# Altium footprint library VK_Lib.PcbLib: 16 footprints
Each footprint in its own frame and in the unit in brackets; x right, y up, seen from the top. Pads: shape width x height; smd on the part's side, far side on the other; paste and mask are expansions set on the pad; w line width, h text height; cw(c..) or ccw(c..) is an arc to the next point about the centre after c.
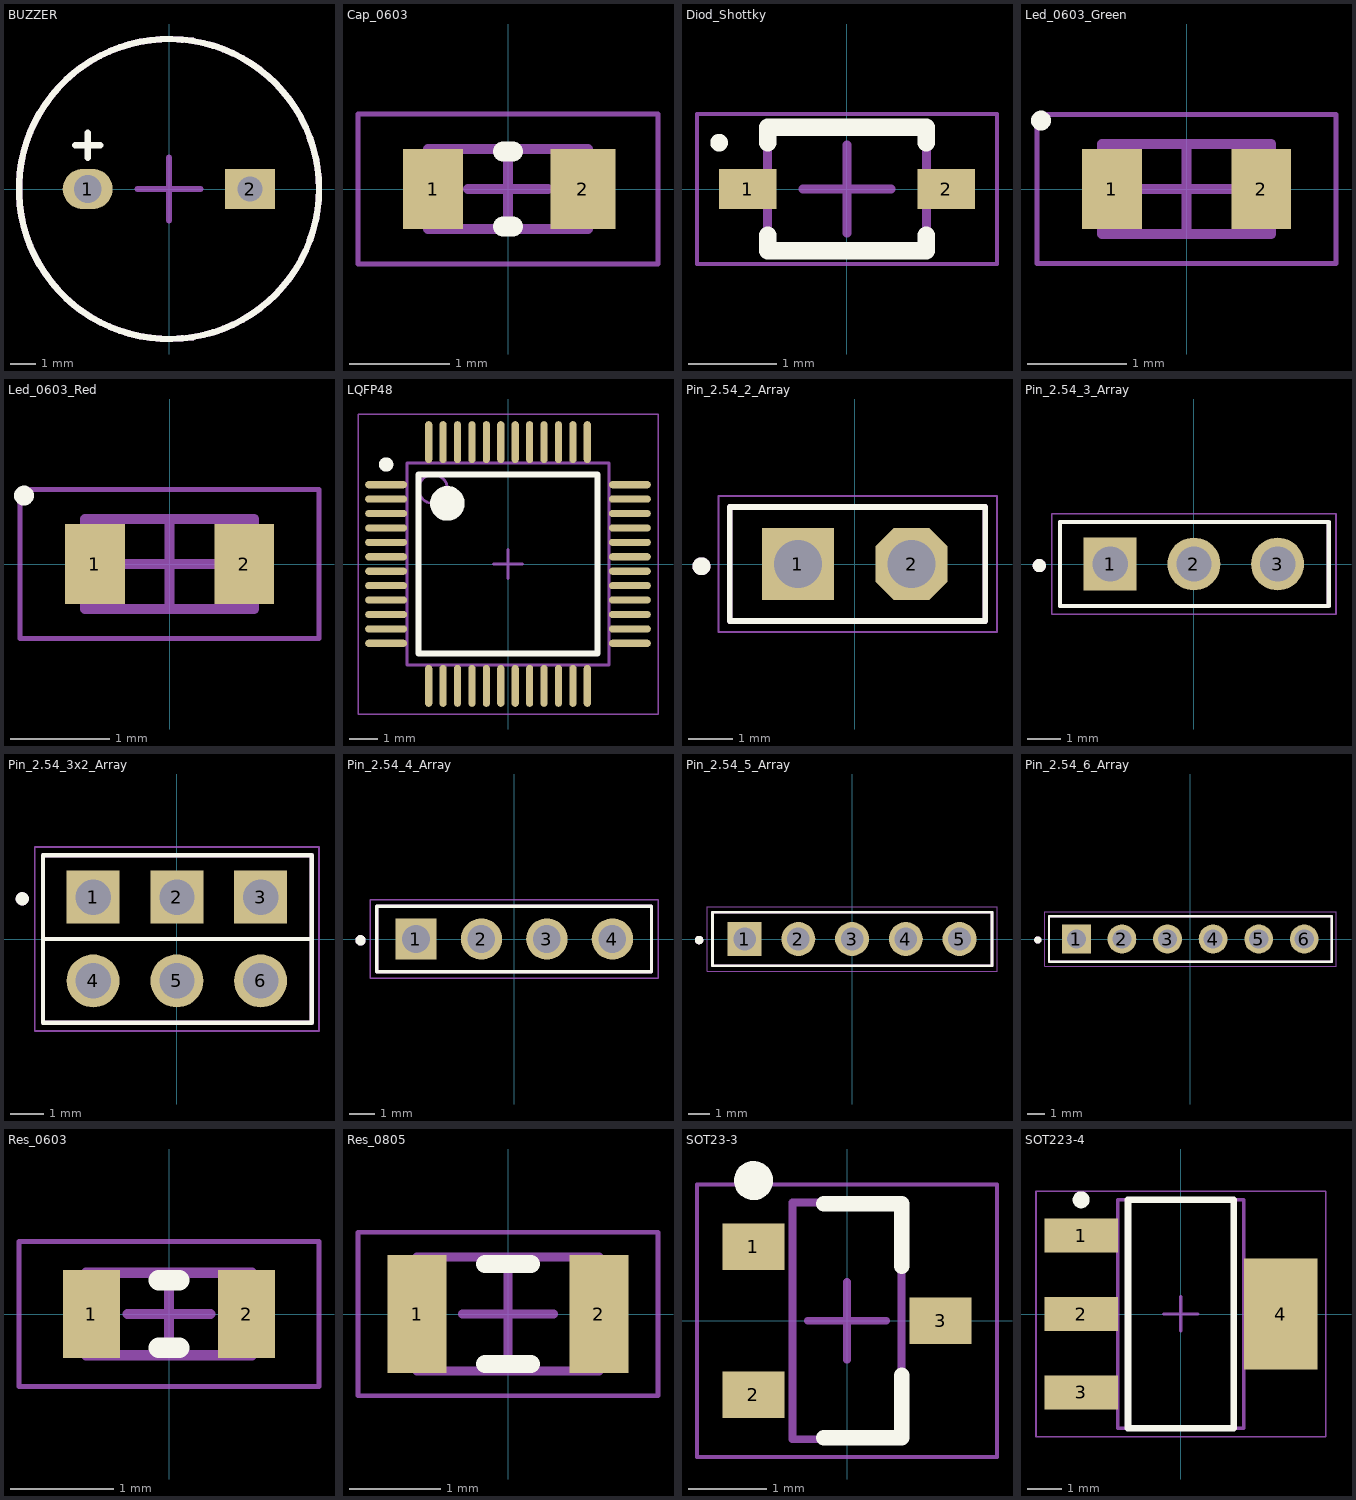
[diagram p0: the footprints below, top view; thin cyan lines are the x and y axes]

## BUZZER [mm]
pads (2):
  oval 2x1.6 hole 1.1: 1(-3.25,0)
  rect 2x1.6 hole 1: 2(3.25,0)
Top Overlay:
  circle w0.254: c0,0 r6
  lines w0.254: -3.75,1.75 -2.75,1.75 ; -3.25,1.25 -3.25,2.25
Mechanical 15:
  circle w0.254: c0,0 r6
  lines w0.254: -1.25,0 1.25,0 ; 0,-1.25 0,1.25
3D body "BUZZER.step": height 8.5, standoff -5.5, extent -6,-6 6,6

## Cap_0603 [mm] "Chip Capacitor, 2-Leads, Body 1,60x0,80mm, IPC Medium Density"
height 0.45
pads (2):
  rect 0.6x0.8 smd: 1(-0.75,0)
  rect 0.65x0.8 smd: 2(0.75,0)
Top Overlay:
  lines w0.2: -0.05,-0.375 0.05,-0.375 ; -0.05,0.375 0.05,0.375
Mechanical 13:
  lines w0.1: -0.8,-0.4 0.8,-0.4 0.8,0.4 -0.8,0.4 -0.8,-0.4
Mechanical 15:
  lines w0.05: -1.5,-0.75 1.5,-0.75 1.5,0.75 -1.5,0.75 -1.5,-0.75
  lines w0.1: -0.4,0 0.4,0 ; 0,-0.4 0,0.4
3D body "CAPC06003.step": height 0.45, standoff 0, extent -0.8,-0.4 0.8,0.4

## Diod_Shottky [mm] "SODFL, 2-Leads, Body 1,25x2,50mm, IPC Medium Density"
height 1.1
pads (2):
  rect 0.65x0.45 smd: 1(-1.125,0) 2(1.125,0)
Top Overlay:
  circle w0.1: c-1.45,0.525 r0.05
  lines w0.2: -0.9,-0.525 -0.9,-0.7 0.9,-0.7 0.9,-0.525 ; -0.9,0.525 -0.9,0.7 0.9,0.7 0.9,0.525
Mechanical 13:
  lines w0.1: -0.9,-0.675 -0.9,0.675 0.9,0.675 0.9,-0.675 -0.9,-0.675
Mechanical 15:
  lines w0.05: -1.7,-0.85 -1.7,0.85 1.7,0.85 1.7,-0.85 -1.7,-0.85
  lines w0.1: -0.5,0 0.5,0 ; 0,-0.5 0,0.5
3D body "SODFL250X110-2N.step": height 1.1, standoff 0, extent -1.25,-0.675 1.25,0.675

## Led_0603_Green [mm]
height 0.45
pads (2):
  rect 0.6x0.8 smd: 1(-0.75,0) 2(0.75,0)
Top Overlay:
  circle w0.1: c-1.462,0.687 r0.05
Mechanical 13:
  lines w0.1: -0.85,-0.45 0.85,-0.45 0.85,0.45 -0.85,0.45 -0.85,-0.45
Mechanical 15:
  lines w0.05: -1.5,-0.75 1.5,-0.75 1.5,0.75 -1.5,0.75 -1.5,-0.75
  lines w0.1: -0.45,0 0.45,0 ; 0,-0.45 0,0.45
3D body: height 0.45, standoff 0, extent -0.55,-0.45 0.55,0.45
3D body: height 0.45, standoff 0, extent 0.55,-0.45 0.85,0.45
3D body: height 0.45, standoff 0, extent -0.85,-0.45 -0.55,0.45
3D body: height 0.55, standoff 0, extent -0.5,-0.15 -0.375,0.15
3D body: height 0.5, standoff 0.4, extent -0.508,-0.381 0.508,0.381

## Led_0603_Red [mm]
height 0.45
pads (2):
  rect 0.6x0.8 smd: 1(-0.75,0) 2(0.75,0)
Top Overlay:
  circle w0.1: c-1.462,0.687 r0.05
Mechanical 13:
  lines w0.1: -0.85,-0.45 0.85,-0.45 0.85,0.45 -0.85,0.45 -0.85,-0.45
Mechanical 15:
  lines w0.05: -1.5,-0.75 1.5,-0.75 1.5,0.75 -1.5,0.75 -1.5,-0.75
  lines w0.1: -0.45,0 0.45,0 ; 0,-0.45 0,0.45
3D body: height 0.45, standoff 0, extent 0.55,-0.45 0.85,0.45
3D body: height 0.45, standoff 0, extent -0.55,-0.45 0.55,0.45
3D body: height 0.45, standoff 0, extent -0.85,-0.45 -0.55,0.45
3D body: height 0.5, standoff 0.4, extent -0.508,-0.381 0.508,0.381
3D body: height 0.55, standoff 0, extent -0.5,-0.15 -0.375,0.15

## LQFP48 [mm] "TSQFP, 48-Leads, Body 7,00x7,00mm, Pitch 0,50mm, IPC Medium Density"
height 1.6
pads (48):
  oval 1.45x0.25 smd: 1(-4.225,2.75) 2(-4.225,2.25) 3(-4.225,1.75) 4(-4.225,1.25) 5(-4.225,0.75) 6(-4.225,0.25) 7(-4.225,-0.25) 8(-4.225,-0.75) 9(-4.225,-1.25) 10(-4.225,-1.75) 11(-4.225,-2.25) 12(-4.225,-2.75) 25(4.225,-2.75) 26(4.225,-2.25) 27(4.225,-1.75) 28(4.225,-1.25) 29(4.225,-0.75) 30(4.225,-0.25) 31(4.225,0.25) 32(4.225,0.75) 33(4.225,1.25) 34(4.225,1.75) 35(4.225,2.25) 36(4.225,2.75)
  oval 0.25x1.45 smd: 13(-2.75,-4.225) 14(-2.25,-4.225) 15(-1.75,-4.225) 16(-1.25,-4.225) 17(-0.75,-4.225) 18(-0.25,-4.225) 19(0.25,-4.225) 20(0.75,-4.225) 21(1.25,-4.225) 22(1.75,-4.225) 23(2.25,-4.225) 24(2.75,-4.225) 37(2.75,4.225) 38(2.25,4.225) 39(1.75,4.225) 40(1.25,4.225) 41(0.75,4.225) 42(0.25,4.225) 43(-0.25,4.225) 44(-0.75,4.225) 45(-1.25,4.225) 46(-1.75,4.225) 47(-2.25,4.225) 48(-2.75,4.225)
Top Overlay:
  circle w0.6: c-2.1,2.1 r0.3
  circle w0.25: c-4.225,3.45 r0.125
  lines w0.2: -3.1,-3.1 3.1,-3.1 3.1,3.1 -3.1,3.1 -3.1,-3.1
Mechanical 13:
  circle w0.1: c-2.6,2.6 r0.5
  lines w0.1: -3.5,-3.5 3.5,-3.5 3.5,3.5 -3.5,3.5 -3.5,-3.5
Mechanical 15:
  lines w0.05: -5.2,-5.2 5.2,-5.2 5.2,5.2 -5.2,5.2 -5.2,-5.2
  lines w0.1: -0.5,0 0.5,0 ; 0,-0.5 0,0.5
3D body "LQFP48.step": height 1.6, standoff 0, extent -4.5,-4.5 4.5,4.5

## Pin_2.54_2_Array [mm]
pads (2):
  rect 1.605x1.605 hole 1.07: 1(-1.27,0)
  oct 1.605x1.605 hole 1.07: 2(1.27,0)
Top Overlay:
  circle w0.2: c-3.42,-0.05 r0.1
  lines w0.127: -2.79,-1.27 2.915,-1.27 2.915,1.27 -2.79,1.27 -2.79,-1.27
Mechanical 13:
  circle w0.2: c-3.42,-0.05 r0.1
  lines w0.127: -2.79,-1.27 2.915,-1.27 2.915,1.27 -2.79,1.27 -2.79,-1.27
Mechanical 15:
  lines w0.05: -3.04,-1.52 3.175,-1.52 3.175,1.52 -3.04,1.52 -3.04,-1.52
3D body "Pin Header 1x2 TH Pitch 2.54mm.stp": height 9.5, standoff -3.2, extent -2.555,-1.22 2.525,1.32

## Pin_2.54_3_Array [mm]
pads (3):
  rect 1.605x1.605 hole 1.07: 1(-2.54,0)
  round 1.605 hole 1.07: 2(0,0) 3(2.54,0)
Top Overlay:
  circle w0.2: c-4.69,-0.05 r0.1
  lines w0.127: -4.06,-1.27 4.09,-1.27 4.09,1.27 -4.06,1.27 -4.06,-1.27
Mechanical 13:
  circle w0.2: c-4.69,-0.05 r0.1
  lines w0.127: -4.06,-1.27 4.09,-1.27 4.09,1.27 -4.06,1.27 -4.06,-1.27
Mechanical 15:
  lines w0.05: -4.31,-1.52 4.31,-1.52 4.31,1.52 -4.31,1.52 -4.31,-1.52
3D body "Pin Header 1x3 TH Pitch 2.54mm.stp": height 9.5, standoff -3.2, extent -3.81,-1.27 3.81,1.27

## Pin_2.54_3x2_Array [mm]
pads (6):
  rect 1.605x1.605 hole 1.07: 1(-2.54,1.27) 2(0,1.27) 3(2.54,1.27)
  round 1.605 hole 1.07: 4(-2.54,-1.27) 5(0,-1.27) 6(2.54,-1.27)
Top Overlay:
  circle w0.2: c-4.69,1.22 r0.1
  lines w0.127: -4.06,0 -4.06,-2.54 4.09,-2.54 4.09,0 ; -4.06,0 4.09,0 ; -4.06,0 -4.06,2.54 4.09,2.54 4.09,0 ; -4.06,0 4.09,0
Mechanical 13:
  circle w0.2: c-4.69,1.22 r0.1
  lines w0.127: -4.06,-2.54 4.09,-2.54 4.09,0 4.09,2.54 -4.06,2.54 -4.06,0 -4.06,-2.54
Mechanical 15:
  lines w0.05: -4.31,-0.25 -4.31,2.79 4.31,2.79 4.31,-0.25 ; -4.31,0.25 -4.31,-2.79 4.31,-2.79 4.31,0.25
3D body "Pin Header 1x3 TH Pitch 2.54mm.stp": height 9.5, standoff -3.2, extent -3.81,0 3.81,2.54
3D body "Pin Header 1x3 TH Pitch 2.54mm.stp": height 9.5, standoff -3.2, extent -3.81,-2.55 3.81,-0.01

## Pin_2.54_4_Array [mm]
pads (4):
  rect 1.605x1.605 hole 1.07: 1(-3.81,0)
  round 1.605 hole 1.07: 2(-1.27,0) 3(1.27,0) 4(3.81,0)
Top Overlay:
  circle w0.2: c-5.96,-0.05 r0.1
  lines w0.127: -5.33,-1.27 5.33,-1.27 5.33,1.27 -5.33,1.27 -5.33,-1.27
Mechanical 13:
  circle w0.2: c-5.96,-0.05 r0.1
  lines w0.127: -5.33,-1.27 5.33,-1.27 5.33,1.27 -5.33,1.27 -5.33,-1.27
Mechanical 15:
  lines w0.05: -5.58,-1.52 5.58,-1.52 5.58,1.52 -5.58,1.52 -5.58,-1.52
3D body "Pin Header 1x4 TH Pitch 2.54mm.stp": height 9.5, standoff -3.2, extent -5.08,-1.27 5.08,1.27

## Pin_2.54_5_Array [mm]
pads (5):
  rect 1.605x1.605 hole 1.07: 1(-5.08,0)
  round 1.605 hole 1.07: 2(-2.54,0) 3(0,0) 4(2.54,0) 5(5.08,0)
Top Overlay:
  circle w0.2: c-7.23,-0.05 r0.1
  lines w0.127: -6.6,-1.27 -6.6,1.27 6.61,1.27 6.61,-1.27 -6.6,-1.27
Mechanical 13:
  circle w0.2: c-7.23,-0.05 r0.1
  lines w0.127: -6.6,-1.27 -6.6,1.27 6.61,1.27 6.61,-1.27 -6.6,-1.27
Mechanical 15:
  lines w0.05: -6.85,-1.52 -6.85,1.52 6.85,1.52 6.85,-1.52 -6.85,-1.52
3D body "Pin Header 1x5 TH Pitch 2.54mm.stp": height 9.5, standoff -3.2, extent -6.35,-1.27 6.35,1.27

## Pin_2.54_6_Array [mm]
pads (6):
  rect 1.605x1.605 hole 1.07: 1(-6.35,0)
  round 1.605 hole 1.07: 2(-3.81,0) 3(-1.27,0) 4(1.27,0) 5(3.81,0) 6(6.35,0)
Top Overlay:
  circle w0.2: c-8.5,-0.05 r0.1
  lines w0.127: -7.87,-1.27 7.88,-1.27 7.88,1.27 -7.87,1.27 -7.87,-1.27
Mechanical 13:
  circle w0.2: c-8.5,-0.05 r0.1
  lines w0.127: -7.87,-1.27 -7.87,1.27 7.88,1.27 7.88,-1.27 -7.87,-1.27
Mechanical 15:
  lines w0.05: -8.12,-1.52 8.12,-1.52 8.12,1.52 -8.12,1.52 -8.12,-1.52
3D body "Pin Header 1x6 TH Pitch 2.54mm.stp": height 9.5, standoff -3.2, extent -7.62,-1.27 7.62,1.27

## Res_0603 [mm] "Chip Resistor, 2-Leads, Body 1,60x0,80mm, IPC Medium Density"
height 0.45
pads (2):
  rect 0.55x0.85 smd: 1(-0.75,0) 2(0.75,0)
Top Overlay:
  lines w0.2: -0.1,-0.325 0.1,-0.325 ; -0.1,0.325 0.1,0.325
Mechanical 13:
  lines w0.1: -0.8,-0.4 0.8,-0.4 0.8,0.4 -0.8,0.4 -0.8,-0.4
Mechanical 15:
  lines w0.05: -1.45,-0.7 1.45,-0.7 1.45,0.7 -1.45,0.7 -1.45,-0.7
  lines w0.1: -0.4,0 0.4,0 ; 0,-0.4 0,0.4
3D body "RES_0603_2.step": height 0.45, standoff 0, extent -0.8,-0.4 0.8,0.4

## Res_0805 [mm] "Chip Resistor, 2-Leads, Body 2,00x1,25mm, IPC Medium Density"
height 0.5
pads (2):
  rect 0.65x1.3 smd: 1(-1,0) 2(1,0)
Top Overlay:
  lines w0.2: -0.25,-0.55 0.25,-0.55 ; -0.25,0.55 0.25,0.55
Mechanical 13:
  lines w0.1: -1,-0.625 -1,0.625 1,0.625 1,-0.625 -1,-0.625
Mechanical 15:
  lines w0.05: -1.65,-0.9 -1.65,0.9 1.65,0.9 1.65,-0.9 -1.65,-0.9
  lines w0.1: -0.5,0 0.5,0 ; 0,-0.5 0,0.5
3D body "RES_0805.step": height 0.5, standoff 0, extent -1,-0.625 1,0.625

## SOT23-3 [mm] "SOT23, 3-Leads, Body 2,92x2,37mm, Pitch 0,95mm, IPC Medium Density"
height 1.11
pads (3):
  rect 0.8x0.6 smd: 1(-1.2,0.95) 2(-1.2,-0.95) 3(1.2,0)
Top Overlay:
  circle w0.25: c-1.2,1.8 r0.125
  lines w0.2: -0.3,-1.5 0.7,-1.5 0.7,-0.7 ; -0.3,1.5 0.7,1.5 0.7,0.7
Mechanical 13:
  lines w0.1: -0.7,-1.52 0.7,-1.52 0.7,1.52 -0.7,1.52 -0.7,-1.52
Mechanical 15:
  lines w0.05: -1.925,-1.75 1.925,-1.75 1.925,1.75 -1.925,1.75 -1.925,-1.75
  lines w0.1: -0.5,0 0.5,0 ; 0,-0.5 0,0.5
3D body "SOT23-4.step": height 1.11, standoff 0, extent -1.32,-1.52 1.32,1.52

## SOT223-4 [mm] "SOT223, 4-Leads, Body 6,50x7,00mm (avg), Pitch 2,30mm, IPC Medium Density"
height 1.8
pads (4):
  rect 2.15x1 smd: 1(-2.925,2.3) 2(-2.925,0) 3(-2.925,-2.3)
  rect 2.15x3.25 smd: 4(2.925,0)
Top Overlay:
  circle w0.25: c-2.925,3.35 r0.125
  lines w0.2: -1.55,-3.35 -1.55,3.35 1.55,3.35 1.55,-3.35 -1.55,-3.35
Mechanical 13:
  lines w0.1: -1.85,-3.35 -1.85,3.35 1.85,3.35 1.85,-3.35 -1.85,-3.35
Mechanical 15:
  lines w0.05: -4.25,-3.6 -4.25,3.6 4.25,3.6 4.25,-3.6 -4.25,-3.6
  lines w0.1: -0.5,0 0.5,0 ; 0,-0.5 0,0.5
3D body "SOT230P700X180-4N.step": height 1.8, standoff 0, extent -3.5,-3.35 3.5,3.35